# Altium integrated library Linear Technology PMIC-Switching Reg LTC1174-LTC3901.IntLib: 2647 symbols (part 81 of 310)
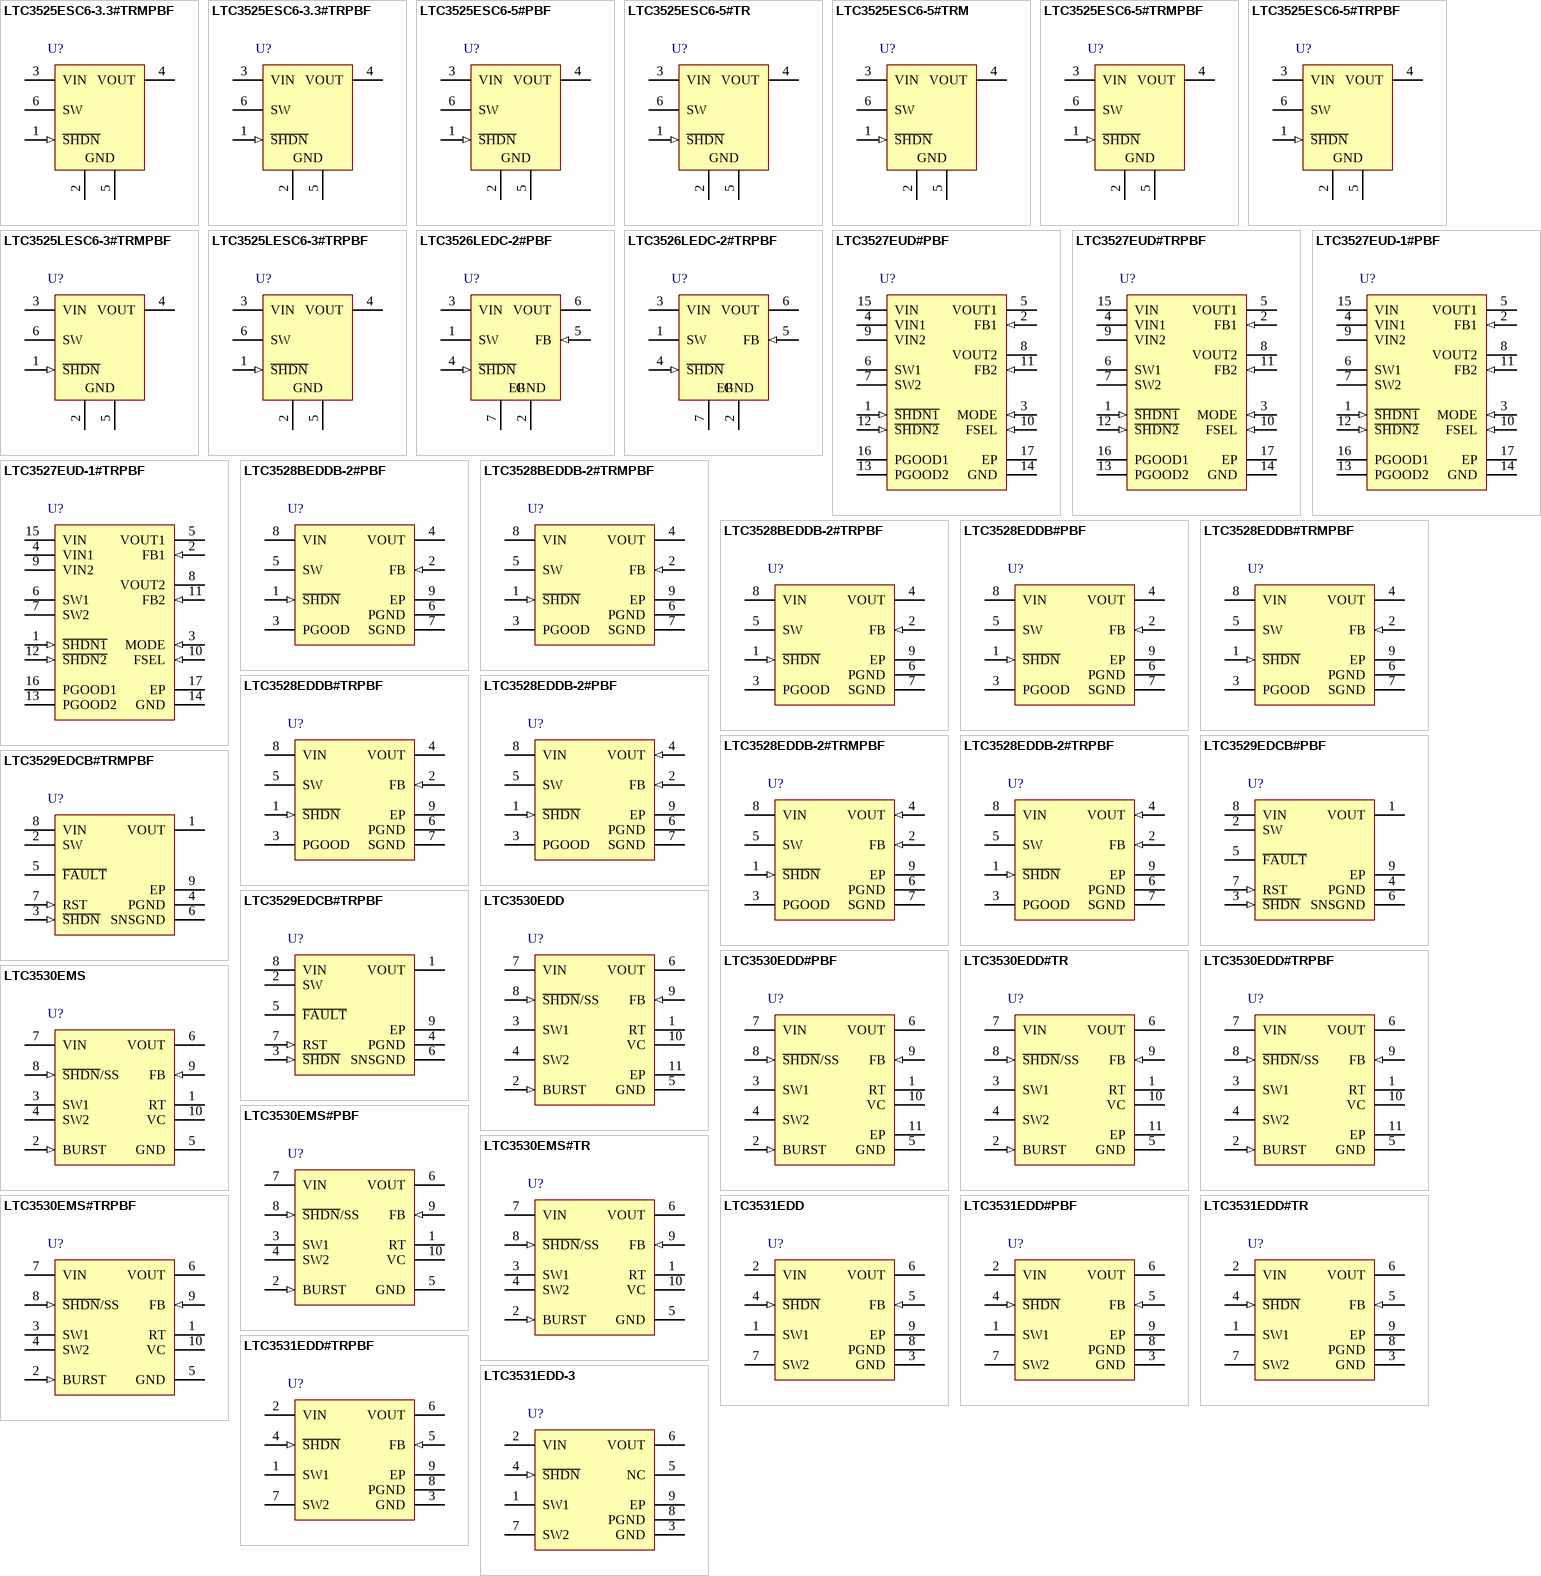
[diagram p261: symbols LTC3525ESC6-3.3#TRMPBF to LTC3531EDD-3]

## LTC3525ESC6-5#TRMPBF
designator U?
400 mA Micropower Synchronous Step-Up DC/DC Converter with Output Disconnect, 6-pin SOT23 (SC6-6), -40 to 85 degC, Pb-Free, Mini Tape and Reel; Manufacturer: Linear Technology; PartNumber: LTC3525ESC6-5#TRMPBF; Number of Outputs: 1; PackageReference: SC6-6; PackageDescription: 6-Pin Plastic SC70, Body 2 x 1.25 mm, Pitch 0.65 mm; Supplier 1: Digi-Key; Supplier Part Number 1: LTC3525ESC6-5#TRMPBFTR-ND; RoHS: TRUE; Code_JEDEC: MO-203
footprint LT-SC6-6-SC70_N (SOT23, 6-Leads, Body 2.2x1.35mm, Pitch 0.65mm, IPC Medium Density)
footprint LT-SC6-6-SC70_L (SOT23, 6-Leads, Body 2.2x1.35mm, Pitch 0.65mm, IPC High Density)
footprint LT-SC6-6-SC70_M (SOT23, 6-Leads, Body 2.2x1.35mm, Pitch 0.65mm, IPC Low Density)
pins: 1 ~{SHDN} (in) "Logic-Controlled Shutdown Input.", 2 GND (power) "Ground.", 3 VIN (power) "Input Voltage.", 4 VOUT (power) "Output Voltage Sense and the Output of the Synchronous Rectifier. Connect the output filter capacitor from VOUT to GND, close to the IC. A minimum value of 10uF ceramic is recommended. Use 22uF for reduced output ripple.", 5 GND (power) "Ground.", 6 SW "Switch Pin. Connect an inductor from this pin to VIN. An internal antiringing resistor is connected across SW and VIN after the inductor current has dropped to zero to minimize EMI."

## LTC3525ESC6-5#TRPBF
designator U?
400 mA Micropower Synchronous Step-Up DC/DC Converter with Output Disconnect, 6-pin SOT23 (SC6-6), -40 to 85 degC, Pb-Free, Tape and Reel; Manufacturer: Linear Technology; PartNumber: LTC3525ESC6-5#TRPBF; Number of Outputs: 1; PackageReference: SC6-6; PackageDescription: 6-Pin Plastic SC70, Body 2 x 1.25 mm, Pitch 0.65 mm; Supplier 1: Digi-Key; Supplier Part Number 1: LTC3525ESC6-5#TRPBF-ND; RoHS: TRUE; Code_JEDEC: MO-203
footprint LT-SC6-6-SC70_N (SOT23, 6-Leads, Body 2.2x1.35mm, Pitch 0.65mm, IPC Medium Density)
footprint LT-SC6-6-SC70_L (SOT23, 6-Leads, Body 2.2x1.35mm, Pitch 0.65mm, IPC High Density)
footprint LT-SC6-6-SC70_M (SOT23, 6-Leads, Body 2.2x1.35mm, Pitch 0.65mm, IPC Low Density)
pins: 1 ~{SHDN} (in) "Logic-Controlled Shutdown Input.", 2 GND (power) "Ground.", 3 VIN (power) "Input Voltage.", 4 VOUT (power) "Output Voltage Sense and the Output of the Synchronous Rectifier. Connect the output filter capacitor from VOUT to GND, close to the IC. A minimum value of 10uF ceramic is recommended. Use 22uF for reduced output ripple.", 5 GND (power) "Ground.", 6 SW "Switch Pin. Connect an inductor from this pin to VIN. An internal antiringing resistor is connected across SW and VIN after the inductor current has dropped to zero to minimize EMI."

## LTC3525LESC6-3#TRMPBF
designator U?
400 mA Micropower Synchronous Step-Up DC/DC Converter with Output Disconnect, 6-pin SOT23 (SC6-6), -40 to 85 degC, Pb-Free, Mini Tape and Reel; Manufacturer: Linear Technology; PartNumber: LTC3525LESC6-3#TRMPBF; Number of Outputs: 1; PackageReference: SC6-6; PackageDescription: 6-Pin Plastic SC70, Body 2 x 1.25 mm, Pitch 0.65 mm; Supplier 1: Digi-Key; Supplier Part Number 1: LTC3525LESC6-3#TRMPBF-ND; RoHS: TRUE; Code_JEDEC: MO-203
footprint LT-SC6-6-SC70_N (SOT23, 6-Leads, Body 2.2x1.35mm, Pitch 0.65mm, IPC Medium Density)
footprint LT-SC6-6-SC70_L (SOT23, 6-Leads, Body 2.2x1.35mm, Pitch 0.65mm, IPC High Density)
footprint LT-SC6-6-SC70_M (SOT23, 6-Leads, Body 2.2x1.35mm, Pitch 0.65mm, IPC Low Density)
pins: 1 ~{SHDN} (in) "Logic-Controlled Shutdown Input.", 2 GND (power) "Ground.", 3 VIN (power) "Input Voltage.", 4 VOUT (power) "Output Voltage Sense and the Output of the Synchronous Rectifier. Connect the output filter capacitor from VOUT to GND, close to the IC. A minimum value of 10uF ceramic is recommended. Use 22uF for reduced output ripple.", 5 GND (power) "Ground.", 6 SW "Switch Pin. Connect an inductor from this pin to VIN. An internal antiringing resistor is connected across SW and VIN after the inductor current has dropped to zero to minimize EMI."

## LTC3525LESC6-3#TRPBF
designator U?
400 mA Micropower Synchronous Step-Up DC/DC Converter with Output Disconnect, 6-pin SOT23 (SC6-6), -40 to 85 degC, Pb-Free, Tape and Reel; Manufacturer: Linear Technology; PartNumber: LTC3525LESC6-3#TRPBF; Number of Outputs: 1; PackageReference: SC6-6; PackageDescription: 6-Pin Plastic SC70, Body 2 x 1.25 mm, Pitch 0.65 mm; Supplier 1: Digi-Key; Supplier Part Number 1: LTC3525LESC6-3#TRPBF-ND; RoHS: TRUE; Code_JEDEC: MO-203
footprint LT-SC6-6-SC70_N (SOT23, 6-Leads, Body 2.2x1.35mm, Pitch 0.65mm, IPC Medium Density)
footprint LT-SC6-6-SC70_L (SOT23, 6-Leads, Body 2.2x1.35mm, Pitch 0.65mm, IPC High Density)
footprint LT-SC6-6-SC70_M (SOT23, 6-Leads, Body 2.2x1.35mm, Pitch 0.65mm, IPC Low Density)
pins: 1 ~{SHDN} (in) "Logic-Controlled Shutdown Input.", 2 GND (power) "Ground.", 3 VIN (power) "Input Voltage.", 4 VOUT (power) "Output Voltage Sense and the Output of the Synchronous Rectifier. Connect the output filter capacitor from VOUT to GND, close to the IC. A minimum value of 10uF ceramic is recommended. Use 22uF for reduced output ripple.", 5 GND (power) "Ground.", 6 SW "Switch Pin. Connect an inductor from this pin to VIN. An internal antiringing resistor is connected across SW and VIN after the inductor current has dropped to zero to minimize EMI."